# Altium footprint library 638263122004.PcbLib: 1 footprints
Each footprint in its own frame and in the unit in brackets; x right, y up, seen from the top. Pads: shape width x height; smd on the part's side, far side on the other; paste and mask are expansions set on the pad; w line width, h text height; cw(c..) or ccw(c..) is an arc to the next point about the centre after c.
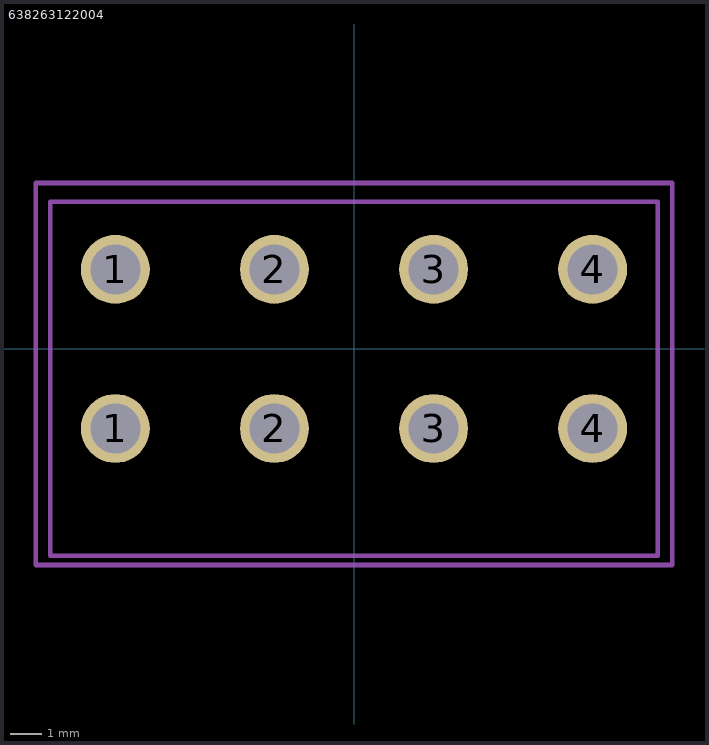
[diagram p0: the footprint, top view; thin cyan lines are the x and y axes]

## 638263122004 [mm]
pads (8):
  round 2.2 hole 1.6: 1(-7.62,-2.54) 1(-7.62,2.54) 2(-2.54,-2.54) 2(-2.54,2.54) 3(2.54,-2.54) 3(2.54,2.54) 4(7.62,-2.54) 4(7.62,2.54)
Top Assembly:
  lines w0.15: -9.7,-6.6 -9.7,-5.76 -9.7,4.7 1.22,4.7 9.7,4.7 9.7,-5.66 9.7,-6.6 -9.7,-6.6
Top Courtyard:
  lines w0.15: -10.16,-6.9 -10.16,5.3 10.16,5.3 10.16,-6.9 -10.16,-6.9
3D body "638263222004.stp": height 21, standoff -4, extent -9.68,-6.536 9.68,4.7